# Altium footprint library ESP8266.PcbLib: 1 footprints
Each footprint in its own frame and in the unit in brackets; x right, y up, seen from the top. Pads: shape width x height; smd on the part's side, far side on the other; paste and mask are expansions set on the pad; w line width, h text height; cw(c..) or ccw(c..) is an arc to the next point about the centre after c.
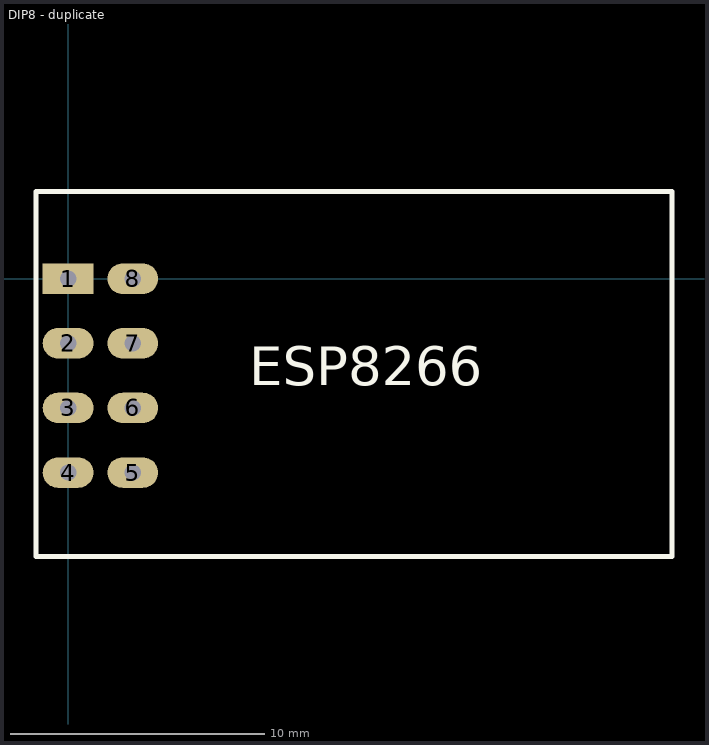
[diagram p0: the footprint, top view; thin cyan lines are the x and y axes]

## DIP8 - duplicate [mm]
pads (8):
  rect 2x1.2 hole 0.64: 1(0,0)
  oval 2x1.2 hole 0.64: 2(0,-2.54) 3(0,-5.08) 4(0,-7.62) 5(2.54,-7.62) 6(2.54,-5.08) 7(2.54,-2.54) 8(2.54,0)
Top Overlay:
  lines w0.2: -1.27,3.378 -1.27,-10.922 23.749,-10.922 23.749,3.429 -1.27,3.429
  text "ESP8266" at 7.114,-4.191 h1.52